# EAGLE library part 61002221121 (library Board-to-Board (rev18a))
WR-PHD 2.54mm Dual SMT Pin Header, 22 Pins =>Code : Con_BTB_PHD_2.54_2_61002221121 <http://katalog.we-online.de/media/images/eican/Con_BTB_PHD_2.54_2_6100xx21121_pf2.jpg> Details see: http://katalog.we-online.de/en/em/610_0xx_211_21 Created 2014-05-29, Karrer Zheng 2014 (C) Würth Elektronik
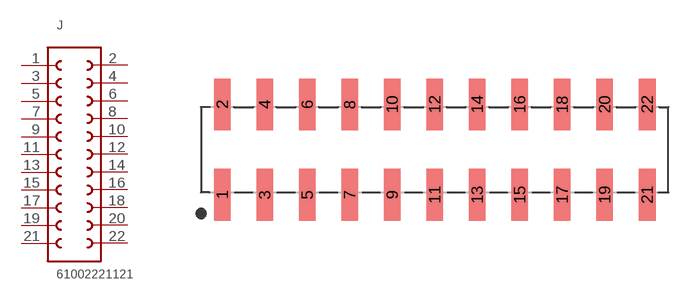
[diagram p81: symbol with the pads of 61002221121; footprint 61002221121]

Designator prefix J

## 61002221121  [61002221121]
1  1  pas
2  22  pas
3  2  pas
4  21  pas
5  3  pas
6  20  pas
7  4  pas
8  19  pas
9  5  pas
10  18  pas
11  6  pas
12  17  pas
13  7  pas
14  16  pas
15  8  pas
16  15  pas
17  9  pas
18  14  pas
19  10  pas
20  13  pas
21  11  pas
22  12  pas

## Footprint 61002221121 (pad centres in mm)
WR-PHD 2.54mm Dual SMT Pin Header, 22 Pins
smd 1 x 3.1: 1 -12.7,-2.7; 2 -12.7,2.7; 3 -10.16,-2.7; 4 -10.16,2.7; 5 -7.62,-2.7; 6 -7.62,2.7; 7 -5.08,-2.7; 8 -5.08,2.7; 9 -2.54,-2.7; 10 -2.54,2.7; 11 0,-2.7; 12 0,2.7; 13 2.54,-2.7; 14 2.54,2.7; 15 5.08,-2.7; 16 5.08,2.7; 17 7.62,-2.7; 18 7.62,2.7; 19 10.16,-2.7; 20 10.16,2.7; 21 12.7,-2.7; 22 12.7,2.7